# Altium schematic symbol library edison.SchLib: 1 symbol
Pins are listed as number, name and electrical type; pins without a type are passive.

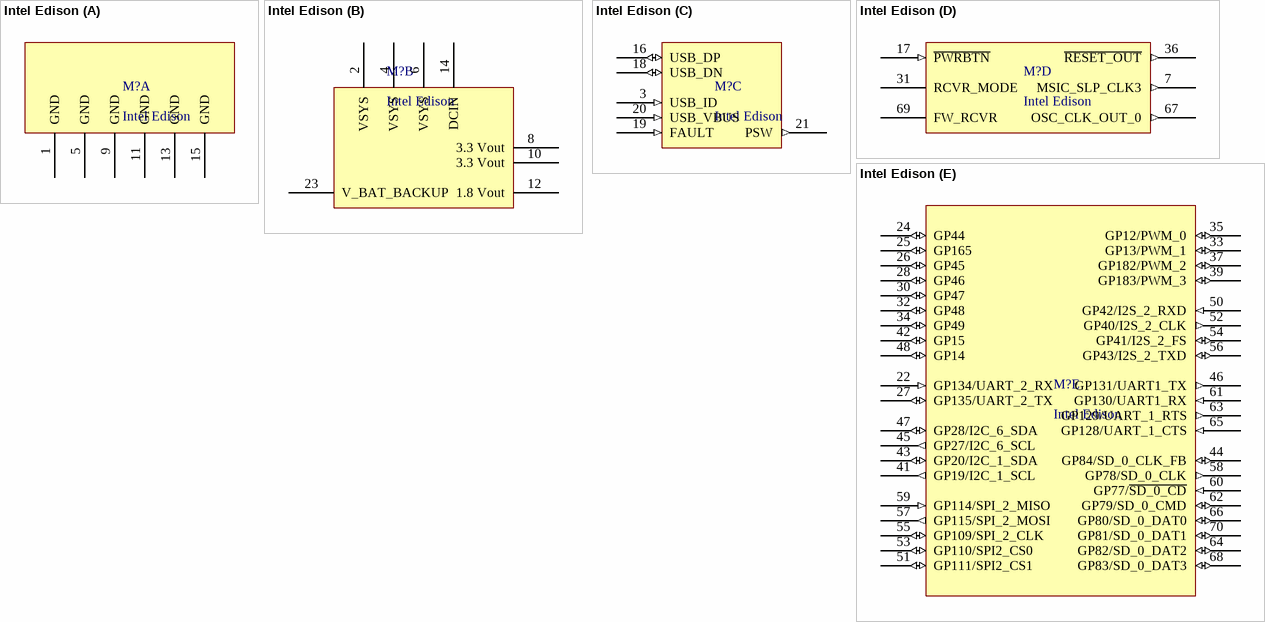
[diagram p0: symbol Intel Edison]

## Intel Edison
designator M?
Supplier 1: Digi-Key; Supplier Part Number 1: H124603CT-ND
footprint Intel Edison mating (DF40 Series 0.4 mm Pitch, 3.0 Height, Board-to-Board connectors)
part A pins: 1 GND, 5 GND, 9 GND, 11 GND, 13 GND, 15 GND
part B pins: 2 VSYS, 4 VSYS, 6 VSYS, 8 3.3 Vout (power), 10 3.3 Vout (power), 12 1.8 Vout (power), 14 DCIN, 23 V_BAT_BACKUP (power)
part C pins: 3 USB_ID (in), 16 USB_DP (io), 18 USB_DN (io), 19 FAULT (in), 20 USB_VBUS (in), 21 PSW (out)
part D pins: 7 MSIC_SLP_CLK3 (out), 17 ~{PWRBTN} (in), 31 RCVR_MODE, 36 ~{RESET_OUT} (out), 67 OSC_CLK_OUT_0 (out), 69 FW_RCVR
part E pins: 22 GP134/UART_2_RX (in), 24 GP44 (io), 25 GP165 (io), 26 GP45 (io), 27 GP135/UART_2_TX (io), 28 GP46 (io), 30 GP47 (io), 32 GP48 (io), 33 GP13/PWM_1 (io), 34 GP49 (io), 35 GP12/PWM_0 (io), 37 GP182/PWM_2 (io), 39 GP183/PWM_3 (io), 41 GP19/I2C_1_SCL (out), 42 GP15 (io), 43 GP20/I2C_1_SDA (io), 44 GP84/SD_0_CLK_FB (io), 45 GP27/I2C_6_SCL (out), 46 GP131/UART1_TX (out), 47 GP28/I2C_6_SDA (io), 48 GP14 (io), 50 GP42/I2S_2_RXD (in), 51 GP111/SPI2_CS1 (io), 52 GP40/I2S_2_CLK (out), 53 GP110/SPI2_CS0 (io), 54 GP41/I2S_2_FS (io), 55 GP109/SPI_2_CLK (io), 56 GP43/I2S_2_TXD (io), 57 GP115/SPI_2_MOSI (out), 58 GP78/SD_0_CLK (out), 59 GP114/SPI_2_MISO (in), 60 GP77/~{SD_0_CD} (in), 61 GP130/UART1_RX (in), 62 GP79/SD_0_CMD (io), 63 GP129/UART_1_RTS (out), 64 GP82/SD_0_DAT2 (io), 65 GP128/UART_1_CTS (in), 66 GP80/SD_0_DAT0 (io), 68 GP83/SD_0_DAT3 (io), 70 GP81/SD_0_DAT1 (io)